# Altium schematic symbol library Conn-Barrel_Power_SW.SchLib: 1 symbol
Pins are listed as number, name and electrical type; pins without a type are passive.

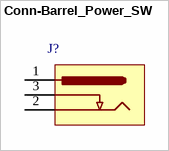
[diagram p0: symbol Conn-Barrel_Power_SW]

## Conn-Barrel_Power_SW
designator J?  (value not drawn)
pins: 1 PIN, 2 SWITCH, 3 SPRING